# EAGLE library part MMA7341L (library dviid)
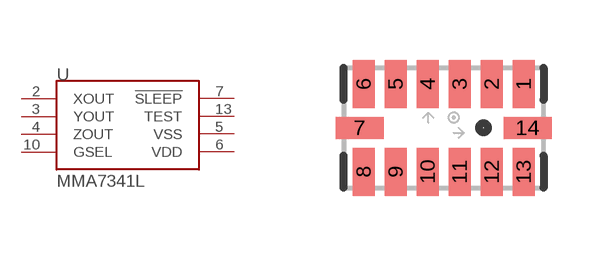
[diagram p2: symbol with the pads of LGA14; footprint LGA14]

Designator prefix -

## MMA7341L  [LGA14]
2  XOUT  out
3  YOUT  out
4  ZOUT  out
5  VSS  pwr
6  VDD  pwr
7  !SLEEP  in
10  GSEL  in
13  TEST

## Footprint LGA14 (pad centres in mm)
smd 0.55 x 1.2: 1 2,1.1; 2 1.2,1.1; 3 0.4,1.1; 4 -0.4,1.1; 5 -1.2,1.1; 6 -2,1.1; 8 -2,-1.1; 9 -1.2,-1.1; 10 -0.4,-1.1; 11 0.4,-1.1; 12 1.2,-1.1; 13 2,-1.1
smd 1.2 x 0.55: 7 -2.1,0; 14 2.1,0